# Altium schematic symbol library RC0805FR-071KL.SchLib: 1 symbol
Pins are listed as number, name and electrical type; pins without a type are passive.

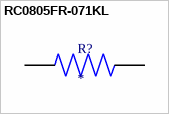
[diagram p0: symbol RC0805FR-071KL]

## RC0805FR-071KL
designator R?
RC Series 0805 0.125 W 1 kOhms 1% Â±100 ppm/Â°C SMT Thick Film Chip Resistor; MF: {'manufacturer': u'Yageo'}; MP: RC0805FR-071KL; Package: None; Price: None; Value: *; Availability: Unavailable
footprint RESC2012X60N
pins: 1, 2